# Altium footprint library SDE0604A101K.PcbLib: 1 footprints
Each footprint in its own frame and in the unit in brackets; x right, y up, seen from the top. Pads: shape width x height; smd on the part's side, far side on the other; paste and mask are expansions set on the pad; w line width, h text height; cw(c..) or ccw(c..) is an arc to the next point about the centre after c.
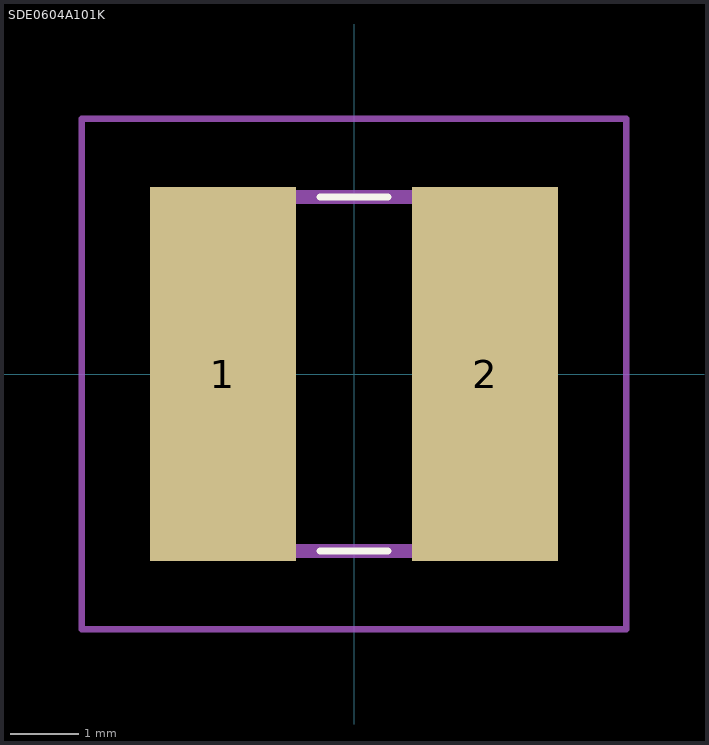
[diagram p0: the footprint, top view; thin cyan lines are the x and y axes]

## SDE0604A101K [mm]
pads (2):
  rect 2.15x5.5 smd: 1(-1.925,0) 2(1.925,0)
Top Overlay:
  lines w0.1: -0.5,-2.6 0.5,-2.6 ; -0.5,2.6 0.5,2.6
Mechanical 15:
  lines w0.2: -2.9,-2.6 -2.9,2.6 2.9,2.6 2.9,-2.6 -2.9,-2.6
Mechanical 20:
  lines w0.1: -4,-3.75 -4,3.75 4,3.75 4,-3.75 -4,-3.75